# Altium schematic symbol library IC_Texas_Instruments_INA200AIDR.SchLib: 1 symbol
Pins are listed as number, name and electrical type; pins without a type are passive.

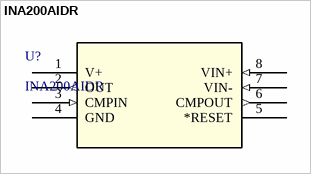
[diagram p0: symbol INA200AIDR]

## INA200AIDR
designator U?
High-Side Measurement Current-Shunt Monitor with Comparator and Reference; Manufacturer: Texas Instruments; GENERIC_PART_NUMBER: INA200; INDUSTRY_STD_PKG_TYPE: SOIC; FAMILY_NAME: CURRENT SHUNT MONITOR; PIN_COUNT: 8; PACKAGE_DESIGNATOR: D; Datasheet_URL: http://www.ti.com/lit/gpn/INA200; Vendor: Texas Instruments; Manufacturer_Part_Number: INA200AIDR; Copyright: Copyright (C) 2018 Accelerated Designs. All rights reserved; RefDes: RefDes; Type: DEV
footprint D8
pins: 1 V+ (power), 2 OUT (out), 3 CMPIN (in), 4 GND (power), 5 *RESET, 6 CMPOUT (out), 7 VIN- (in), 8 VIN+ (in)